# Altium footprint library INDDFN2_640X660X600L140X530N.PcbLib: 1 footprints
Each footprint in its own frame and in the unit in brackets; x right, y up, seen from the top. Pads: shape width x height; smd on the part's side, far side on the other; paste and mask are expansions set on the pad; w line width, h text height; cw(c..) or ccw(c..) is an arc to the next point about the centre after c.
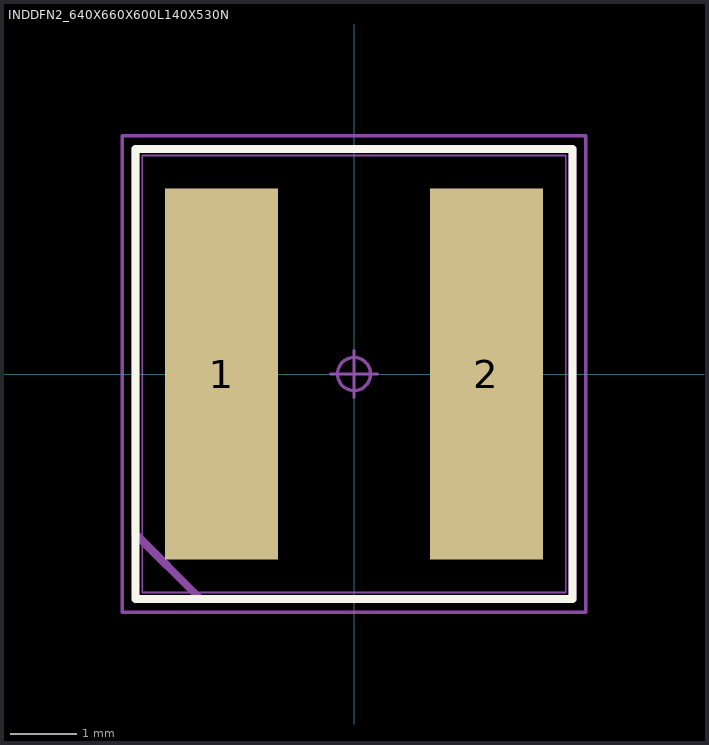
[diagram p0: the footprint, top view; thin cyan lines are the x and y axes]

## INDDFN2_640X660X600L140X530N [mm] "Inductor, Dual Flat No-Lead (DFN 2 Pin); 2 pin, 6.40 mm L X 6.60 mm W X 6.00 mm H body"
height 6
pads (2):
  rect 1.71x5.61 smd: 1(-2,0) 2(2,0)
Top Overlay:
  lines w0.12: -3.3,-3.4 -3.3,3.4 3.3,3.4 3.3,-3.4 -3.3,-3.4
Mechanical 3:
  lines w0.12: -3.3,-2.415 -3.3,3.4 3.3,3.4 3.3,-3.4 -2.315,-3.4 -3.3,-2.415
Mechanical 5:
  lines w0.025: -3.2,-3.3 -3.2,3.3 3.2,3.3 3.2,-3.3 -3.2,-3.3 ; -2.7,-2.65 -1.3,-2.65 -1.3,2.65 -2.7,2.65 -2.7,-2.65 ; 1.3,-2.65 1.3,2.65 2.7,2.65 2.7,-2.65 1.3,-2.65
Mechanical 7:
  circle w0.05: c0,0 r0.25
  lines w0.05: -0.35,0 0.35,0 ; 0,-0.35 0,0.35 ; -3.5,-3.6 -3.5,3.6 3.5,3.6 3.5,-3.6 -3.5,-3.6
Mechanical 9:
  text "'.Designator'" at -5.207,-1.651 h1
3D body "INDDFN2_640X660X600L140X530.STEP": height 6, standoff 0, extent -3.2,-3.3 3.2,3.3
3D body: height 1, standoff 0, extent -3.5,-3.6 3.5,3.6